# Altium integrated library SHARP BlueStreak.IntLib: 29 symbols (part 6 of 9)
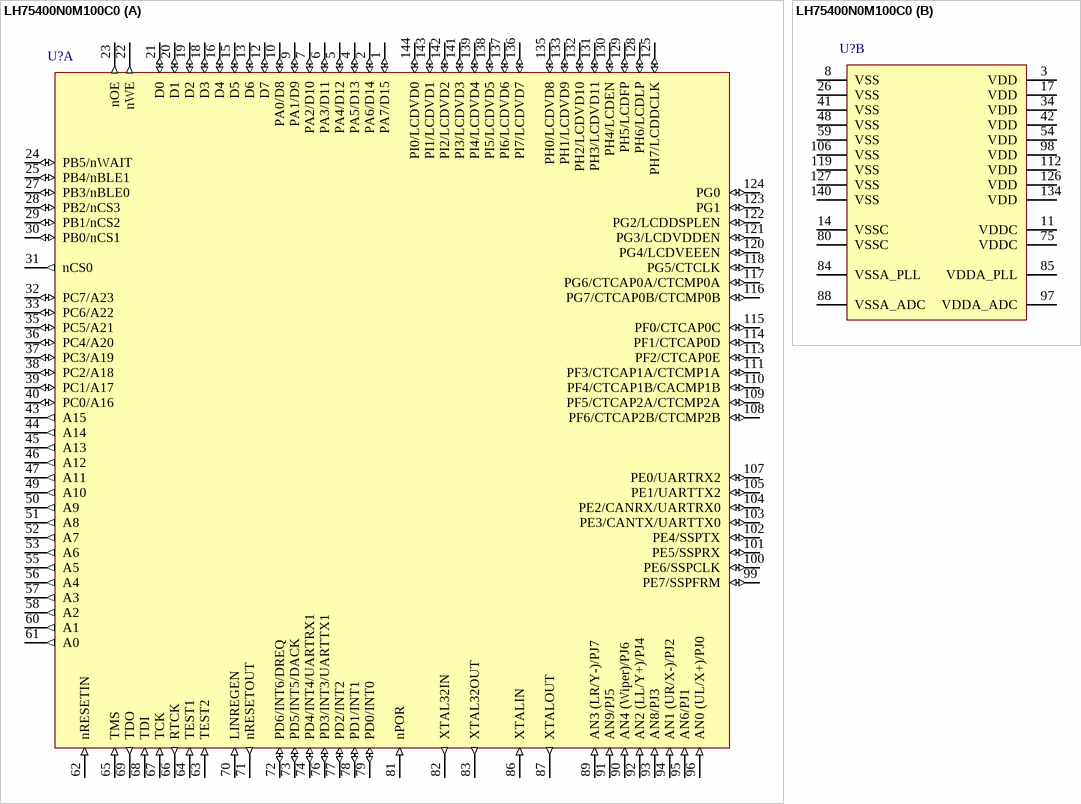
[diagram p38: symbol LH75400N0M100C0]

## LH75400N0M100C0
designator U?
16-Bit ARM7TDMI-S-Based BlueStreak, 8-Bit ADC, CAN 2.0B, UART, Grayscale LCD controller, 32KB SRAM, 144-Pin LQFP; Published: 6-Oct-2005; LatestRevisionDate: 13-Apr-2006; LatestRevisionNote: IPC-7351 Footprint Added.; DatasheetVersion: ver1.2, May-2006; PackageVersion: Mar-2006; PackageReference: 144LQFP; Publisher: Altium Limited; PackageDescription: 144-Pin Low Profile Quad Flat Pack; Code_JEDEC: MS-026; ComponentLink1Description: Manufacturer Link; ComponentLink1URL: http://www.sharpsma.com/; ComponentLink2Description: Datasheet; ComponentLink2URL: http://document.sharpsma.com/files/LH754XX_DS_050806.PDF
footprint 144LQFP_N (Thin QFP, 144-Leads, Body 20x20mm, Pitch 0.5mm, IPC Medium Density)
footprint 144LQFP_L (Thin QFP, 144-Leads, Body 20x20mm, Pitch 0.5mm, IPC High Density)
footprint 144LQFP_M (Thin QFP, 144-Leads, Body 20x20mm, Pitch 0.5mm, IPC Low Density)
3D model LH75400-QFP144 (144-Pin Low Profile Quad Flat Pack)
part A pins: 1 PA7/D15 (io) "GPIO - Port A/Data IO Signal", 2 PA6/D14 (io) "GPIO - Port A/Data IO Signal", 4 PA5/D13 (io) "GPIO - Port A/Data IO Signal", 5 PA4/D12 (io) "GPIO - Port A/Data IO Signal", 6 PA3/D11 (io) "GPIO - Port A/Data IO Signal", 7 PA2/D10 (io) "GPIO - Port A/Data IO Signal", 9 PA1/D9 (io) "GPIO - Port A/Data IO Signal", 10 PA0/D8 (io) "GPIO - Port A/Data IO Signal", 12 D7 (io) "Data IO Signal", 13 D6 (io) "Data IO Signal", 15 D5 (io) "Data IO Signal", 16 D4 (io) "Data IO Signal", 18 D3 (io) "Data IO Signal", 19 D2 (io) "Data IO Signal", 20 D1 (io) "Data IO Signal", 21 D0 (io) "Data IO Signal", 22 nWE (out) "Static Memory Controller Write Enable", 23 nOE (out) "Static Memory Controller Output Enable", 24 PB5/nWAIT (io) "GPIO - Port B/Static Memory Controller External Wait Control", 25 PB4/nBLE1 (io) "GPIO - Port B/Static Memory Controller Byte Lane Strobe", 27 PB3/nBLE0 (io) "GPIO - Port B/Static Memory Controller Byte Lane Strobe", 28 PB2/nCS3 (io) "GPIO - Port B/Static Memory Controller Chip Select", 29 PB1/nCS2 (io) "GPIO - Port B/Static Memory Controller Chip Select", 30 PB0/nCS1 (io) "GPIO - Port B/Static Memory Controller Chip Select", 31 nCS0 (out) "Static Memory Controller Chip Select", 32 PC7/A23 (io) "GPIO - Port C/Address Signal", 33 PC6/A22 (io) "GPIO - Port C/Address Signal", 35 PC5/A21 (io) "GPIO - Port C/Address Signal", 36 PC4/A20 (io) "GPIO - Port C/Address Signal", 37 PC3/A19 (io) "GPIO - Port C/Address Signal", 38 PC2/A18 (io) "GPIO - Port C/Address Signal", 39 PC1/A17 (io) "GPIO - Port C/Address Signal", 40 PC0/A16 (io) "GPIO - Port C/Address Signal", 43 A15 (out) "Address Signal", 44 A14 (out) "Address Signal", 45 A13 (out) "Address Signal", 46 A12 (out) "Address Signal", 47 A11 (out) "Address Signal", 49 A10 (out) "Address Signal", 50 A9 (out) "Address Signal", 51 A8 (out) "Address Signal", 52 A7 (out) "Address Signal", 53 A6 (out) "Address Signal", 55 A5 (out) "Address Signal", 56 A4 (out) "Address Signal", 57 A3 (out) "Address Signal", 58 A2 (out) "Address Signal", 60 A1 (out) "Address Signal", 61 A0 (out) "Address Signal", 62 nRESETIN (in) "User Reset Input", 63 TEST2 (in) "Test Mode Pin 2", 64 TEST1 (in) "Test Mode Pin 1", 65 TMS (in) "JTAG Test Mode Select Input", 66 RTCK (out) "Returned JTAG Test Clock Output", 67 TCK (in) "JTAG Test Clock Input", 68 TDI (in) "JTAG Test Serial Data Input", 69 TDO (out) "JTAG Test Data Serial Output", 70 LINREGEN (in) "Linear Regulator Enable", 71 nRESETOUT (out) "System Reset Output", 72 PD6/INT6/DREQ (io) "GPIO - Port D/External Interrupt Input 6/DMA Request", 73 PD5/INT5/DACK (io) "GPIO - Port D/External Interrupt Input 5/DMA Acknowledge", 74 PD4/INT4/UARTRX1 (io) "GPIO - Port D/External Interrupt Input 4/UART1 RX Serial", 76 PD3/INT3/UARTTX1 (io) "GPIO - Port D/External Interrupt Input 3/UART1 TX Serial Data Output", 77 PD2/INT2 (io) "GPIO - Port D/External Interrupt Input 2", 78 PD1/INT1 (io) "GPIO - Port D/External Interrupt Input 1", 79 PD0/INT0 (io) "GPIO - Port D/External Interrupt Input 0", 81 nPOR (in) "Power-on Reset Input", 82 XTAL32IN (out) "32.768 kHz Crystal Clock Input", 83 XTAL32OUT (out) "32.768 kHz Crystal Clock Output", 86 XTALIN (in) "Crystal Clock Input", 87 XTALOUT (out) "Crystal Clock Output", 89 AN3 (LR/Y-)/PJ7 (in) "ADC Input/GPIO - Port J", 90 AN4 (Wiper)/PJ6 (in) "ADC Input/GPIO - Port J", 91 AN9/PJ5 (in) "ADC Input/GPIO - Port J", 92 AN2 (LL/Y+)/PJ4 (in) "ADC Input/GPIO - Port J", 93 AN8/PJ3 (in) "ADC Input/GPIO - Port J", 94 AN1 (UR/X-)/PJ2 (in) "ADC Input/GPIO - Port J", 95 AN6/PJ1 (in) "ADC Input/GPIO - Port J", 96 AN0 (UL/X+)/PJ0 (in) "ADC Input/GPIO - Port J", 99 PE7/SSPFRM (io) "GPIO - Port E/SSP Serial Frame", 100 PE6/SSPCLK (io) "GPIO - Port E/SSP Clock", 101 PE5/SSPRX (io) "GPIO - Port E/SSP RXD", 102 PE4/SSPTX (io) "GPIO - Port E/SSP TXD", 103 PE3/CANTX/UARTTX0 (io) "GPIO - Port E/CAN TX Serial Data Output/UART0 TX Serial Data Output", 104 PE2/CANRX/UARTRX0 (io) "GPIO - Port E/CAN RX Serial/UART0 RX Serial", 105 PE1/UARTTX2 (io) "GPIO - Port E/UART2 TX Serial Data Output", 107 PE0/UARTRX2 (io) "GPIO - Port E/UART2 RX Serial", 108 PF6/CTCAP2B/CTCMP2B (io) "GPIO - Port F/Timer 2 Capture Input/Timer 2 Compare Output", 109 PF5/CTCAP2A/CTCMP2A (io) "GPIO - Port F/Timer 2 Capture Input/Timer 2 Compare Output", 110 PF4/CTCAP1B/CACMP1B (io) "GPIO - Port F/Timer 1 Capture Input/Timer 1 Compare Output", 111 PF3/CTCAP1A/CTCMP1A (io) "GPIO - Port F/Timer 1 Capture Input/Timer 1 Compare Output", 113 PF2/CTCAP0E (io) "GPIO - Port F/Timer 0 Capture Input", 114 PF1/CTCAP0D (io) "GPIO - Port F/Timer 0 Capture Input", 115 PF0/CTCAP0C (io) "GPIO - Port F/Timer 0 Capture Input", 116 PG7/CTCAP0B/CTCMP0B (io) "GPIO - Port G/Timer 0 Capture Input/Timer 0 Compare Output", 117 PG6/CTCAP0A/CTCMP0A (io) "GPIO - Port G/Timer 0 Capture Input/Timer 0 Compare Output", 118 PG5/CTCLK (io) "GPIO - Port G/Common External", 120 PG4/LCDVEEEN (io) "GPIO - Port G/Analog Supply Enable (AC Bias SIgnal)", 121 PG3/LCDVDDEN (io) "GPIO - Port G/Digital Supply Enable", 122 PG2/LCDDSPLEN (io) "GPIO - Port G/LCD Panel Power Enable", 123 PG1 (io) "GPIO - Port G", 124 PG0 (io) "GPIO - Port G", 125 PH7/LCDDCLK (io) "GPIO - Port H/LCD Panel Clock", 128 PH6/LCDLP (io) "GPIO - Port H/Line Synch Pulse (STN), Horizontal Synch Pulse (TFT)", 129 PH5/LCDFP (io) "GPIO - Port H/Frame Pulse (STN), Vertical", 130 PH4/LCDEN (io) "GPIO - Port H/LCD Data Enable", 131 PH3/LCDVD11 (io) "GPIO - Port H/LCD Panel Data bus", 132 PH2/LCDVD10 (io) "GPIO - Port H/LCD Panel Data bus", 133 PH1/LCDVD9 (io) "GPIO - Port H/LCD Panel Data bus", 135 PH0/LCDVD8 (io) "GPIO - Port H/LCD Panel Data bus", 136 PI7/LCDVD7 (io) "GPIO - Port I/LCD Panel Data bus", 137 PI6/LCDVD6 (io) "GPIO - Port I/LCD Panel Data bus", 138 PI5/LCDVD5 (io) "GPIO - Port I/LCD Panel Data bus", 139 PI4/LCDVD4 (io) "GPIO - Port I/LCD Panel Data bus", 141 PI3/LCDVD3 (io) "GPIO - Port I/LCD Panel Data bus", 142 PI2/LCDVD2 (io) "GPIO - Port I/LCD Panel Data bus", 143 PI1/LCDVD1 (io) "GPIO - Port I/LCD Panel Data bus", 144 PI0/LCDVD0 (io) "GPIO - Port I/LCD Panel Data bus"
part B pins: 3 VDD (power) "I/O Ring VDD", 8 VSS (power) "I/O Ring VSS", 11 VDDC (power) "Core VDD supply", 14 VSSC (power) "Core VSS", 17 VDD (power) "I/O Ring VDD", 26 VSS (power) "I/O Ring VSS", 34 VDD (power) "I/O Ring VDD", 41 VSS (power) "I/O Ring VSS", 42 VDD (power) "I/O Ring VDD", 48 VSS (power) "I/O Ring VSS", 54 VDD (power) "I/O Ring VDD", 59 VSS (power) "I/O Ring VSS", 75 VDDC (power) "Core VDD supply", 80 VSSC (power) "Core VSS", 84 VSSA_PLL (power) "PLL Analog VSS", 85 VDDA_PLL (power) "PLL Analog VDD Supply", 88 VSSA_ADC (power) "ADC Analog VSS", 97 VDDA_ADC (power) "ADC Analog VDD Supply", 98 VDD (power) "I/O Ring VDD", 106 VSS (power) "I/O Ring VSS", 112 VDD (power) "I/O Ring VDD", 119 VSS (power) "I/O Ring VSS", 126 VDD (power) "I/O Ring VDD", 127 VSS (power) "I/O Ring VSS", 134 VDD (power) "I/O Ring VDD", 140 VSS (power) "I/O Ring VSS"

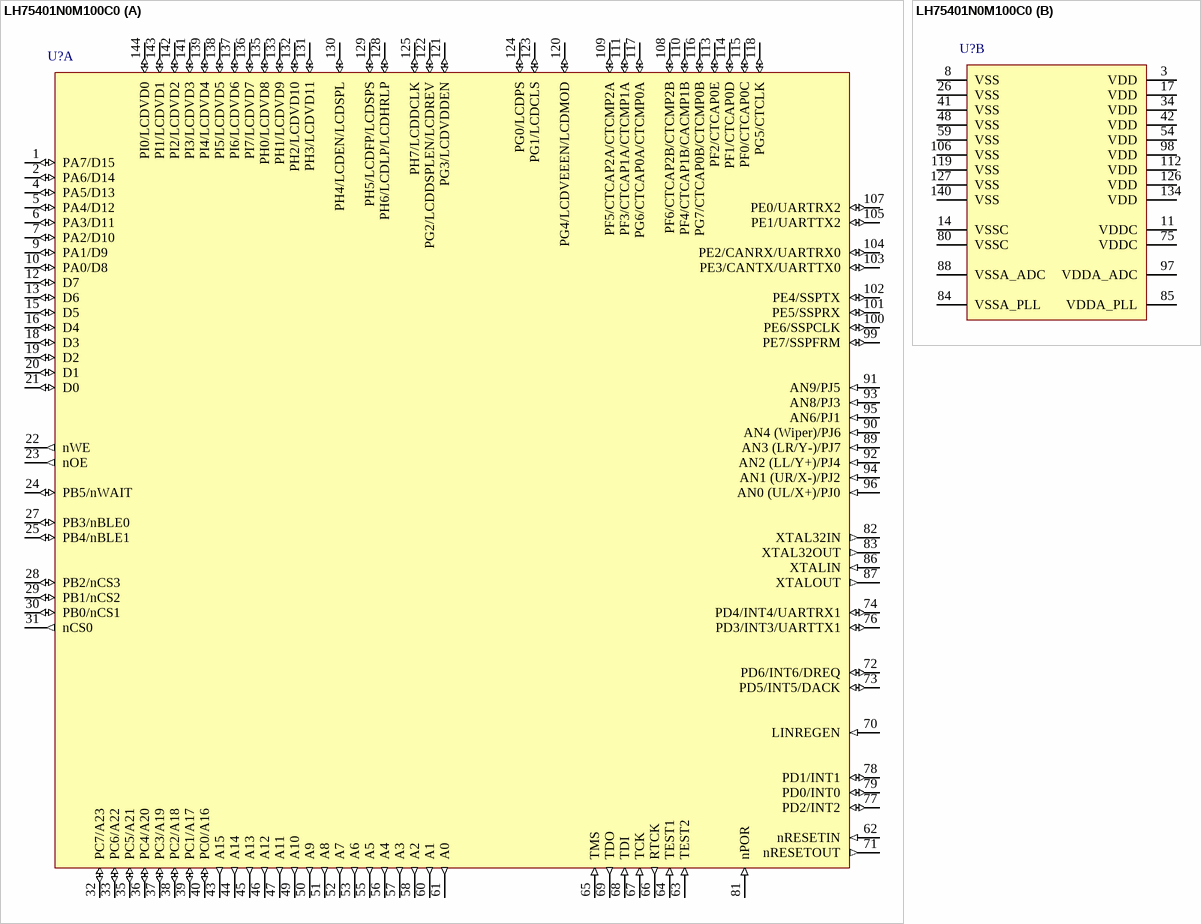
[diagram p21: symbol LH75401N0M100C0]

## LH75401N0M100C0
designator U?
16-Bit ARM7TDMI-S-Based BlueStreak, 8-Bit ADC, CAN 2.0B, UART, Colour LCD controller, 32KB SRAM, 144-Pin LQFP; Published: 6-Oct-2005; LatestRevisionDate: 13-Apr-2006; LatestRevisionNote: IPC-7351 Footprint Added.; DatasheetVersion: ver1.2, May-2006; PackageVersion: Mar-2006; PackageReference: 144LQFP; Publisher: Altium Limited; PackageDescription: 144-Pin Low Profile Quad Flat Pack; Code_JEDEC: MS-026; ComponentLink1Description: Manufacturer Link; ComponentLink1URL: http://www.sharpsma.com/; ComponentLink2Description: Datasheet; ComponentLink2URL: http://document.sharpsma.com/files/LH754XX_DS_050806.PDF
footprint 144LQFP_N (Thin QFP, 144-Leads, Body 20x20mm, Pitch 0.5mm, IPC Medium Density)
footprint 144LQFP_L (Thin QFP, 144-Leads, Body 20x20mm, Pitch 0.5mm, IPC High Density)
footprint 144LQFP_M (Thin QFP, 144-Leads, Body 20x20mm, Pitch 0.5mm, IPC Low Density)
3D model LH75401-QFP144 (144-Pin Low Profile Quad Flat Pack)
part A pins: 1 PA7/D15 (io) "GPIO - Port A/Data IO Signal", 2 PA6/D14 (io) "GPIO - Port A/Data IO Signal", 4 PA5/D13 (io) "GPIO - Port A/Data IO Signal", 5 PA4/D12 (io) "GPIO - Port A/Data IO Signal", 6 PA3/D11 (io) "GPIO - Port A/Data IO Signal", 7 PA2/D10 (io) "GPIO - Port A/Data IO Signal", 9 PA1/D9 (io) "GPIO - Port A/Data IO Signal", 10 PA0/D8 (io) "GPIO - Port A/Data IO Signal", 12 D7 (io) "Data IO Signal", 13 D6 (io) "Data IO Signal", 15 D5 (io) "Data IO Signal", 16 D4 (io) "Data IO Signal", 18 D3 (io) "Data IO Signal", 19 D2 (io) "Data IO Signal", 20 D1 (io) "Data IO Signal", 21 D0 (io) "Data IO Signal", 22 nWE (out) "Static Memory Controller Write Enable", 23 nOE (out) "Static Memory Controller Output Enable", 24 PB5/nWAIT (io) "GPIO - Port B/Static Memory Controller External Wait Control", 25 PB4/nBLE1 (io) "GPIO - Port B/Static Memory Controller Byte Lane Strobe", 27 PB3/nBLE0 (io) "GPIO - Port B/Static Memory Controller Byte Lane Strobe", 28 PB2/nCS3 (io) "GPIO - Port B/Static Memory Controller Chip Select", 29 PB1/nCS2 (io) "GPIO - Port B/Static Memory Controller Chip Select", 30 PB0/nCS1 (io) "GPIO - Port B/Static Memory Controller Chip Select", 31 nCS0 (out) "Static Memory Controller Chip Select", 32 PC7/A23 (io) "GPIO - Port C/Address Signal", 33 PC6/A22 (io) "GPIO - Port C/Address Signal", 35 PC5/A21 (io) "GPIO - Port C/Address Signal", 36 PC4/A20 (io) "GPIO - Port C/Address Signal", 37 PC3/A19 (io) "GPIO - Port C/Address Signal", 38 PC2/A18 (io) "GPIO - Port C/Address Signal", 39 PC1/A17 (io) "GPIO - Port C/Address Signal", 40 PC0/A16 (io) "GPIO - Port C/Address Signal", 43 A15 (out) "Address Signal", 44 A14 (out) "Address Signal", 45 A13 (out) "Address Signal", 46 A12 (out) "Address Signal", 47 A11 (out) "Address Signal", 49 A10 (out) "Address Signal", 50 A9 (out) "Address Signal", 51 A8 (out) "Address Signal", 52 A7 (out) "Address Signal", 53 A6 (out) "Address Signal", 55 A5 (out) "Address Signal", 56 A4 (out) "Address Signal", 57 A3 (out) "Address Signal", 58 A2 (out) "Address Signal", 60 A1 (out) "Address Signal", 61 A0 (out) "Address Signal", 62 nRESETIN (in) "User Reset Input", 63 TEST2 (in) "Test Mode Pin 2", 64 TEST1 (in) "Test Mode Pin 1", 65 TMS (in) "JTAG Test Mode Select Input", 66 RTCK (out) "Returned JTAG Test Clock Output", 67 TCK (in) "JTAG Test Clock Input", 68 TDI (in) "JTAG Test Serial Data Input", 69 TDO (out) "JTAG Test Data Serial Output", 70 LINREGEN (in) "Linear Regulator Enable", 71 nRESETOUT (out) "System Reset Output", 72 PD6/INT6/DREQ (io) "GPIO - Port D/External Interrupt Input 6/DMA Request", 73 PD5/INT5/DACK (io) "GPIO - Port D/External Interrupt Input 5/DMA Acknowledge", 74 PD4/INT4/UARTRX1 (io) "GPIO - Port D/External Interrupt Input 4/UART1 RX Serial", 76 PD3/INT3/UARTTX1 (io) "GPIO - Port D/External Interrupt Input 3/UART1 TX Serial Data Output", 77 PD2/INT2 (io) "GPIO - Port D/External Interrupt Input 2", 78 PD1/INT1 (io) "GPIO - Port D/External Interrupt Input 1", 79 PD0/INT0 (io) "GPIO - Port D/External Interrupt Input 0", 81 nPOR (in) "Power-on Reset Input", 82 XTAL32IN (out) "32.768 kHz Crystal Clock Input", 83 XTAL32OUT (out) "32.768 kHz Crystal Clock Output", 86 XTALIN (in) "Crystal Clock Input", 87 XTALOUT (out) "Crystal Clock Output", 89 AN3 (LR/Y-)/PJ7 (in) "ADC Input/GPIO - Port J", 90 AN4 (Wiper)/PJ6 (in) "ADC Input/GPIO - Port J", 91 AN9/PJ5 (in) "ADC Input/GPIO - Port J", 92 AN2 (LL/Y+)/PJ4 (in) "ADC Input/GPIO - Port J", 93 AN8/PJ3 (in) "ADC Input/GPIO - Port J", 94 AN1 (UR/X-)/PJ2 (in) "ADC Input/GPIO - Port J", 95 AN6/PJ1 (in) "ADC Input/GPIO - Port J", 96 AN0 (UL/X+)/PJ0 (in) "ADC Input/GPIO - Port J", 99 PE7/SSPFRM (io) "GPIO - Port E/SSP Serial Frame", 100 PE6/SSPCLK (io) "GPIO - Port E/SSP Clock", 101 PE5/SSPRX (io) "GPIO - Port E/SSP RXD", 102 PE4/SSPTX (io) "GPIO - Port E/SSP TXD", 103 PE3/CANTX/UARTTX0 (io) "GPIO - Port E/CAN TX Serial Data Output/UART0 TX Serial Data Output", 104 PE2/CANRX/UARTRX0 (io) "GPIO - Port E/CAN RX Serial/UART0 RX Serial", 105 PE1/UARTTX2 (io) "GPIO - Port E/UART2 TX Serial Data Output", 107 PE0/UARTRX2 (io) "GPIO - Port E/UART2 RX Serial", 108 PF6/CTCAP2B/CTCMP2B (io) "GPIO - Port F/Timer 2 Capture Input/Timer 2 Compare Output", 109 PF5/CTCAP2A/CTCMP2A (io) "GPIO - Port F/Timer 2 Capture Input/Timer 2 Compare Output", 110 PF4/CTCAP1B/CACMP1B (io) "GPIO - Port F/Timer 1 Capture Input/Timer 1 Compare Output", 111 PF3/CTCAP1A/CTCMP1A (io) "GPIO - Port F/Timer 1 Capture Input/Timer 1 Compare Output", 113 PF2/CTCAP0E (io) "GPIO - Port F/Timer 0 Capture Input", 114 PF1/CTCAP0D (io) "GPIO - Port F/Timer 0 Capture Input", 115 PF0/CTCAP0C (io) "GPIO - Port F/Timer 0 Capture Input", 116 PG7/CTCAP0B/CTCMP0B (io) "GPIO - Port G/Timer 0 Capture Input/Timer 0 Compare Output", 117 PG6/CTCAP0A/CTCMP0A (io) "GPIO - Port G/Timer 0 Capture Input/Timer 0 Compare Output", 118 PG5/CTCLK (io) "GPIO - Port G/Common External", 120 PG4/LCDVEEEN/LCDMOD (io) "GPIO - Port G/Analog Supply Enable (AC Bias SIgnal)/Row Driver Signal", 121 PG3/LCDVDDEN (io) "GPIO - Port G/Digital Supply Enable", 122 PG2/LCDDSPLEN/LCDREV (io) "GPIO - Port G/LCD Panel Power Enable/Reverse Signal", 123 PG1/LCDCLS (io) "GPIO - Port G/Clock to the Row Drivers", 124 PG0/LCDPS (io) "GPIO - Port G/Power Save", 125 PH7/LCDDCLK (io) "GPIO - Port H/LCD Panel Clock", 128 PH6/LCDLP/LCDHRLP (io) "GPIO - Port H/Line and Horizontal Synch Pulse/Latch Pulse", 129 PH5/LCDFP/LCDSPS (io) "GPIO - Port H/Frame Pulse (STN), Vertical/Row Driver Counter Reset Signal", 130 PH4/LCDEN/LCDSPL (io) "GPIO - Port H/LCD Data Enable/Start Pulse Left", 131 PH3/LCDVD11 (io) "GPIO - Port H/LCD Panel Data bus", 132 PH2/LCDVD10 (io) "GPIO - Port H/LCD Panel Data bus", 133 PH1/LCDVD9 (io) "GPIO - Port H/LCD Panel Data bus", 135 PH0/LCDVD8 (io) "GPIO - Port H/LCD Panel Data bus", 136 PI7/LCDVD7 (io) "GPIO - Port I/LCD Panel Data bus", 137 PI6/LCDVD6 (io) "GPIO - Port I/LCD Panel Data bus", 138 PI5/LCDVD5 (io) "GPIO - Port I/LCD Panel Data bus", 139 PI4/LCDVD4 (io) "GPIO - Port I/LCD Panel Data bus", 141 PI3/LCDVD3 (io) "GPIO - Port I/LCD Panel Data bus", 142 PI2/LCDVD2 (io) "GPIO - Port I/LCD Panel Data bus", 143 PI1/LCDVD1 (io) "GPIO - Port I/LCD Panel Data bus", 144 PI0/LCDVD0 (io) "GPIO - Port I/LCD Panel Data bus"
part B pins: 3 VDD (power) "I/O Ring VDD", 8 VSS (power) "I/O Ring VSS", 11 VDDC (power) "Core VDD supply", 14 VSSC (power) "Core VSS", 17 VDD (power) "I/O Ring VDD", 26 VSS (power) "I/O Ring VSS", 34 VDD (power) "I/O Ring VDD", 41 VSS (power) "I/O Ring VSS", 42 VDD (power) "I/O Ring VDD", 48 VSS (power) "I/O Ring VSS", 54 VDD (power) "I/O Ring VDD", 59 VSS (power) "I/O Ring VSS", 75 VDDC (power) "Core VDD supply", 80 VSSC (power) "Core VSS", 84 VSSA_PLL (power) "PLL Analog VSS", 85 VDDA_PLL (power) "PLL Analog VDD Supply", 88 VSSA_ADC (power) "ADC Analog VSS", 97 VDDA_ADC (power) "ADC Analog VDD Supply", 98 VDD (power) "I/O Ring VDD", 106 VSS (power) "I/O Ring VSS", 112 VDD (power) "I/O Ring VDD", 119 VSS (power) "I/O Ring VSS", 126 VDD (power) "I/O Ring VDD", 127 VSS (power) "I/O Ring VSS", 134 VDD (power) "I/O Ring VDD", 140 VSS (power) "I/O Ring VSS"

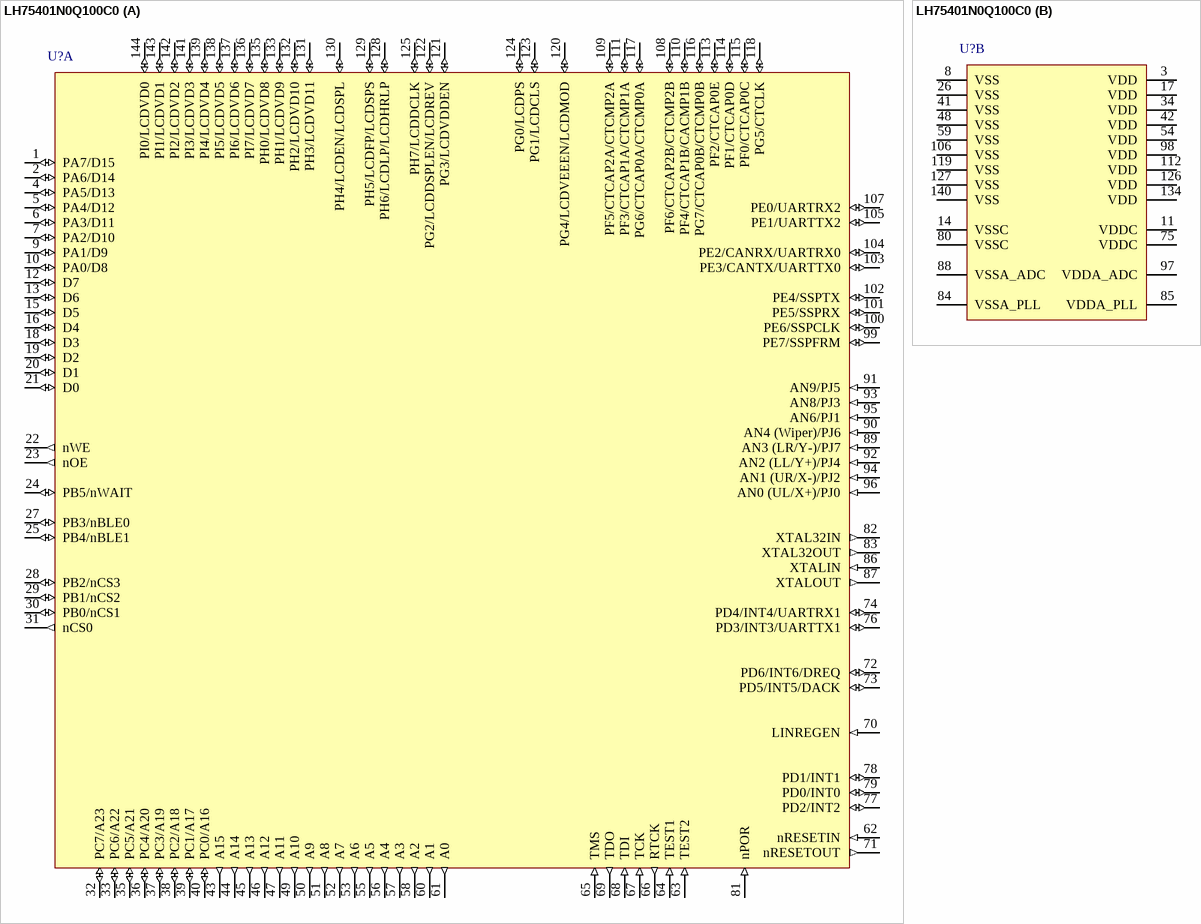
[diagram p22: symbol LH75401N0Q100C0]

## LH75401N0Q100C0
designator U?
16-Bit ARM7TDMI-S-Based BlueStreak, 8-Bit ADC, CAN 2.0B, UART, Colour LCD controller, 32KB SRAM, 144-Pin LQFP, Pb-Free; Published: 6-Oct-2005; LatestRevisionDate: 13-Apr-2006; LatestRevisionNote: IPC-7351 Footprint Added.; DatasheetVersion: ver1.2, May-2006; PackageVersion: Mar-2006; PackageReference: 144LQFP; Publisher: Altium Limited; PackageDescription: 144-Pin Low Profile Quad Flat Pack; Code_JEDEC: MS-026; ComponentLink1Description: Manufacturer Link; ComponentLink1URL: http://www.sharpsma.com/; ComponentLink2Description: Datasheet; ComponentLink2URL: http://document.sharpsma.com/files/LH754XX_DS_050806.PDF
footprint 144LQFP_N (Thin QFP, 144-Leads, Body 20x20mm, Pitch 0.5mm, IPC Medium Density)
footprint 144LQFP_L (Thin QFP, 144-Leads, Body 20x20mm, Pitch 0.5mm, IPC High Density)
footprint 144LQFP_M (Thin QFP, 144-Leads, Body 20x20mm, Pitch 0.5mm, IPC Low Density)
3D model LH75401-QFP144 (144-Pin Low Profile Quad Flat Pack)
part A pins: 1 PA7/D15 (io) "GPIO - Port A/Data IO Signal", 2 PA6/D14 (io) "GPIO - Port A/Data IO Signal", 4 PA5/D13 (io) "GPIO - Port A/Data IO Signal", 5 PA4/D12 (io) "GPIO - Port A/Data IO Signal", 6 PA3/D11 (io) "GPIO - Port A/Data IO Signal", 7 PA2/D10 (io) "GPIO - Port A/Data IO Signal", 9 PA1/D9 (io) "GPIO - Port A/Data IO Signal", 10 PA0/D8 (io) "GPIO - Port A/Data IO Signal", 12 D7 (io) "Data IO Signal", 13 D6 (io) "Data IO Signal", 15 D5 (io) "Data IO Signal", 16 D4 (io) "Data IO Signal", 18 D3 (io) "Data IO Signal", 19 D2 (io) "Data IO Signal", 20 D1 (io) "Data IO Signal", 21 D0 (io) "Data IO Signal", 22 nWE (out) "Static Memory Controller Write Enable", 23 nOE (out) "Static Memory Controller Output Enable", 24 PB5/nWAIT (io) "GPIO - Port B/Static Memory Controller External Wait Control", 25 PB4/nBLE1 (io) "GPIO - Port B/Static Memory Controller Byte Lane Strobe", 27 PB3/nBLE0 (io) "GPIO - Port B/Static Memory Controller Byte Lane Strobe", 28 PB2/nCS3 (io) "GPIO - Port B/Static Memory Controller Chip Select", 29 PB1/nCS2 (io) "GPIO - Port B/Static Memory Controller Chip Select", 30 PB0/nCS1 (io) "GPIO - Port B/Static Memory Controller Chip Select", 31 nCS0 (out) "Static Memory Controller Chip Select", 32 PC7/A23 (io) "GPIO - Port C/Address Signal", 33 PC6/A22 (io) "GPIO - Port C/Address Signal", 35 PC5/A21 (io) "GPIO - Port C/Address Signal", 36 PC4/A20 (io) "GPIO - Port C/Address Signal", 37 PC3/A19 (io) "GPIO - Port C/Address Signal", 38 PC2/A18 (io) "GPIO - Port C/Address Signal", 39 PC1/A17 (io) "GPIO - Port C/Address Signal", 40 PC0/A16 (io) "GPIO - Port C/Address Signal", 43 A15 (out) "Address Signal", 44 A14 (out) "Address Signal", 45 A13 (out) "Address Signal", 46 A12 (out) "Address Signal", 47 A11 (out) "Address Signal", 49 A10 (out) "Address Signal", 50 A9 (out) "Address Signal", 51 A8 (out) "Address Signal", 52 A7 (out) "Address Signal", 53 A6 (out) "Address Signal", 55 A5 (out) "Address Signal", 56 A4 (out) "Address Signal", 57 A3 (out) "Address Signal", 58 A2 (out) "Address Signal", 60 A1 (out) "Address Signal", 61 A0 (out) "Address Signal", 62 nRESETIN (in) "User Reset Input", 63 TEST2 (in) "Test Mode Pin 2", 64 TEST1 (in) "Test Mode Pin 1", 65 TMS (in) "JTAG Test Mode Select Input", 66 RTCK (out) "Returned JTAG Test Clock Output", 67 TCK (in) "JTAG Test Clock Input", 68 TDI (in) "JTAG Test Serial Data Input", 69 TDO (out) "JTAG Test Data Serial Output", 70 LINREGEN (in) "Linear Regulator Enable", 71 nRESETOUT (out) "System Reset Output", 72 PD6/INT6/DREQ (io) "GPIO - Port D/External Interrupt Input 6/DMA Request", 73 PD5/INT5/DACK (io) "GPIO - Port D/External Interrupt Input 5/DMA Acknowledge", 74 PD4/INT4/UARTRX1 (io) "GPIO - Port D/External Interrupt Input 4/UART1 RX Serial", 76 PD3/INT3/UARTTX1 (io) "GPIO - Port D/External Interrupt Input 3/UART1 TX Serial Data Output", 77 PD2/INT2 (io) "GPIO - Port D/External Interrupt Input 2", 78 PD1/INT1 (io) "GPIO - Port D/External Interrupt Input 1", 79 PD0/INT0 (io) "GPIO - Port D/External Interrupt Input 0", 81 nPOR (in) "Power-on Reset Input", 82 XTAL32IN (out) "32.768 kHz Crystal Clock Input", 83 XTAL32OUT (out) "32.768 kHz Crystal Clock Output", 86 XTALIN (in) "Crystal Clock Input", 87 XTALOUT (out) "Crystal Clock Output", 89 AN3 (LR/Y-)/PJ7 (in) "ADC Input/GPIO - Port J", 90 AN4 (Wiper)/PJ6 (in) "ADC Input/GPIO - Port J", 91 AN9/PJ5 (in) "ADC Input/GPIO - Port J", 92 AN2 (LL/Y+)/PJ4 (in) "ADC Input/GPIO - Port J", 93 AN8/PJ3 (in) "ADC Input/GPIO - Port J", 94 AN1 (UR/X-)/PJ2 (in) "ADC Input/GPIO - Port J", 95 AN6/PJ1 (in) "ADC Input/GPIO - Port J", 96 AN0 (UL/X+)/PJ0 (in) "ADC Input/GPIO - Port J", 99 PE7/SSPFRM (io) "GPIO - Port E/SSP Serial Frame", 100 PE6/SSPCLK (io) "GPIO - Port E/SSP Clock", 101 PE5/SSPRX (io) "GPIO - Port E/SSP RXD", 102 PE4/SSPTX (io) "GPIO - Port E/SSP TXD", 103 PE3/CANTX/UARTTX0 (io) "GPIO - Port E/CAN TX Serial Data Output/UART0 TX Serial Data Output", 104 PE2/CANRX/UARTRX0 (io) "GPIO - Port E/CAN RX Serial/UART0 RX Serial", 105 PE1/UARTTX2 (io) "GPIO - Port E/UART2 TX Serial Data Output", 107 PE0/UARTRX2 (io) "GPIO - Port E/UART2 RX Serial", 108 PF6/CTCAP2B/CTCMP2B (io) "GPIO - Port F/Timer 2 Capture Input/Timer 2 Compare Output", 109 PF5/CTCAP2A/CTCMP2A (io) "GPIO - Port F/Timer 2 Capture Input/Timer 2 Compare Output", 110 PF4/CTCAP1B/CACMP1B (io) "GPIO - Port F/Timer 1 Capture Input/Timer 1 Compare Output", 111 PF3/CTCAP1A/CTCMP1A (io) "GPIO - Port F/Timer 1 Capture Input/Timer 1 Compare Output", 113 PF2/CTCAP0E (io) "GPIO - Port F/Timer 0 Capture Input", 114 PF1/CTCAP0D (io) "GPIO - Port F/Timer 0 Capture Input", 115 PF0/CTCAP0C (io) "GPIO - Port F/Timer 0 Capture Input", 116 PG7/CTCAP0B/CTCMP0B (io) "GPIO - Port G/Timer 0 Capture Input/Timer 0 Compare Output", 117 PG6/CTCAP0A/CTCMP0A (io) "GPIO - Port G/Timer 0 Capture Input/Timer 0 Compare Output", 118 PG5/CTCLK (io) "GPIO - Port G/Common External", 120 PG4/LCDVEEEN/LCDMOD (io) "GPIO - Port G/Analog Supply Enable (AC Bias SIgnal)/Row Driver Signal", 121 PG3/LCDVDDEN (io) "GPIO - Port G/Digital Supply Enable", 122 PG2/LCDDSPLEN/LCDREV (io) "GPIO - Port G/LCD Panel Power Enable/Reverse Signal", 123 PG1/LCDCLS (io) "GPIO - Port G/Clock to the Row Drivers", 124 PG0/LCDPS (io) "GPIO - Port G/Power Save", 125 PH7/LCDDCLK (io) "GPIO - Port H/LCD Panel Clock", 128 PH6/LCDLP/LCDHRLP (io) "GPIO - Port H/Line and Horizontal Synch Pulse/Latch Pulse", 129 PH5/LCDFP/LCDSPS (io) "GPIO - Port H/Frame Pulse (STN), Vertical/Row Driver Counter Reset Signal", 130 PH4/LCDEN/LCDSPL (io) "GPIO - Port H/LCD Data Enable/Start Pulse Left", 131 PH3/LCDVD11 (io) "GPIO - Port H/LCD Panel Data bus", 132 PH2/LCDVD10 (io) "GPIO - Port H/LCD Panel Data bus", 133 PH1/LCDVD9 (io) "GPIO - Port H/LCD Panel Data bus", 135 PH0/LCDVD8 (io) "GPIO - Port H/LCD Panel Data bus", 136 PI7/LCDVD7 (io) "GPIO - Port I/LCD Panel Data bus", 137 PI6/LCDVD6 (io) "GPIO - Port I/LCD Panel Data bus", 138 PI5/LCDVD5 (io) "GPIO - Port I/LCD Panel Data bus", 139 PI4/LCDVD4 (io) "GPIO - Port I/LCD Panel Data bus", 141 PI3/LCDVD3 (io) "GPIO - Port I/LCD Panel Data bus", 142 PI2/LCDVD2 (io) "GPIO - Port I/LCD Panel Data bus", 143 PI1/LCDVD1 (io) "GPIO - Port I/LCD Panel Data bus", 144 PI0/LCDVD0 (io) "GPIO - Port I/LCD Panel Data bus"
part B pins: 3 VDD (power) "I/O Ring VDD", 8 VSS (power) "I/O Ring VSS", 11 VDDC (power) "Core VDD supply", 14 VSSC (power) "Core VSS", 17 VDD (power) "I/O Ring VDD", 26 VSS (power) "I/O Ring VSS", 34 VDD (power) "I/O Ring VDD", 41 VSS (power) "I/O Ring VSS", 42 VDD (power) "I/O Ring VDD", 48 VSS (power) "I/O Ring VSS", 54 VDD (power) "I/O Ring VDD", 59 VSS (power) "I/O Ring VSS", 75 VDDC (power) "Core VDD supply", 80 VSSC (power) "Core VSS", 84 VSSA_PLL (power) "PLL Analog VSS", 85 VDDA_PLL (power) "PLL Analog VDD Supply", 88 VSSA_ADC (power) "ADC Analog VSS", 97 VDDA_ADC (power) "ADC Analog VDD Supply", 98 VDD (power) "I/O Ring VDD", 106 VSS (power) "I/O Ring VSS", 112 VDD (power) "I/O Ring VDD", 119 VSS (power) "I/O Ring VSS", 126 VDD (power) "I/O Ring VDD", 127 VSS (power) "I/O Ring VSS", 134 VDD (power) "I/O Ring VDD", 140 VSS (power) "I/O Ring VSS"

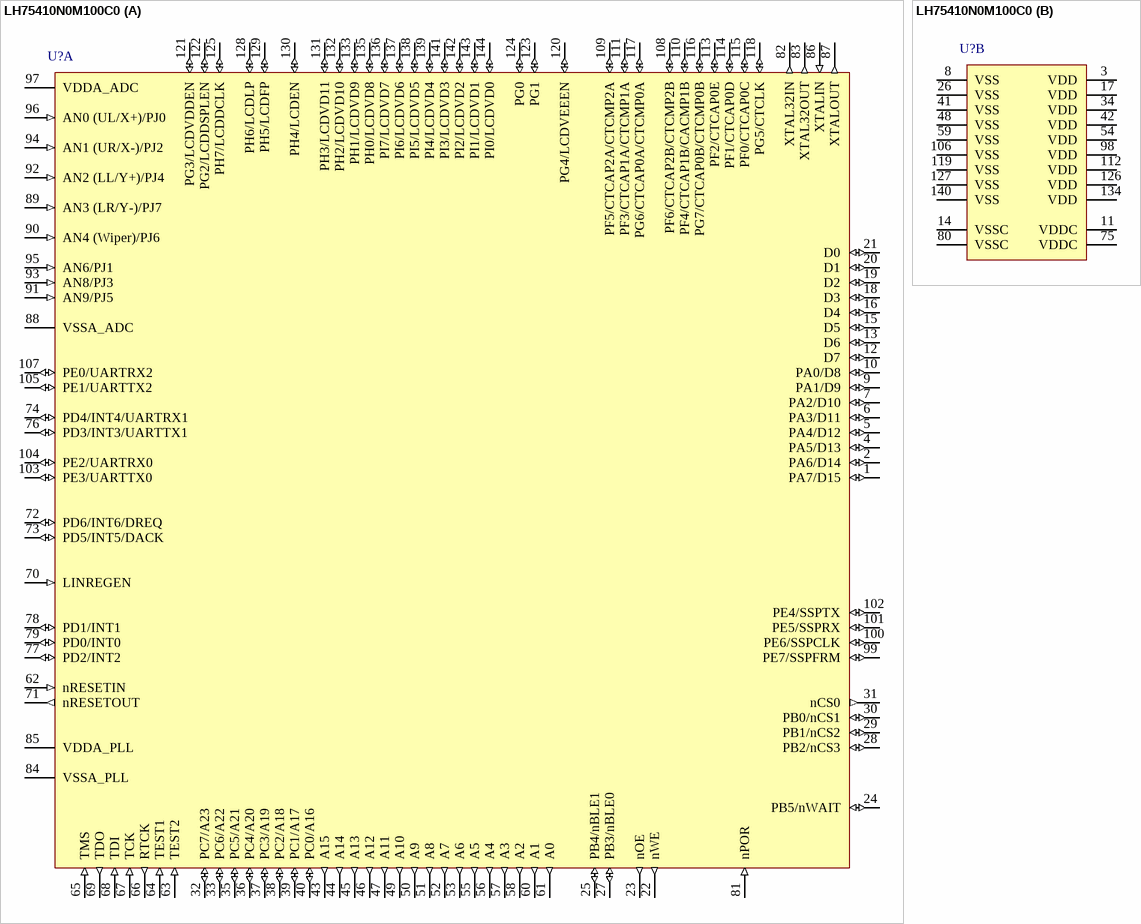
[diagram p23: symbol LH75410N0M100C0]

## LH75410N0M100C0
designator U?
16-Bit ARM7TDMI-S-Based BlueStreak, 8-Bit ADC, UART, Grayscale LCD controller, 32KB SRAM, 144-Pin LQFP; Published: 6-Oct-2005; LatestRevisionDate: 13-Apr-2006; LatestRevisionNote: IPC-7351 Footprint Added.; DatasheetVersion: ver1.2, May-2006; PackageVersion: Mar-2006; PackageReference: 144LQFP; Publisher: Altium Limited; PackageDescription: 144-Pin Low Profile Quad Flat Pack; Code_JEDEC: MS-026; ComponentLink1Description: Manufacturer Link; ComponentLink1URL: http://www.sharpsma.com/; ComponentLink2Description: Datasheet; ComponentLink2URL: http://document.sharpsma.com/files/LH754XX_DS_050806.PDF
footprint 144LQFP_N (Thin QFP, 144-Leads, Body 20x20mm, Pitch 0.5mm, IPC Medium Density)
footprint 144LQFP_L (Thin QFP, 144-Leads, Body 20x20mm, Pitch 0.5mm, IPC High Density)
footprint 144LQFP_M (Thin QFP, 144-Leads, Body 20x20mm, Pitch 0.5mm, IPC Low Density)
3D model LH75410-QFP144 (144-Pin Low Profile Quad Flat Pack)
part A pins: 1 PA7/D15 (io) "GPIO - Port A/Data IO Signal", 2 PA6/D14 (io) "GPIO - Port A/Data IO Signal", 4 PA5/D13 (io) "GPIO - Port A/Data IO Signal", 5 PA4/D12 (io) "GPIO - Port A/Data IO Signal", 6 PA3/D11 (io) "GPIO - Port A/Data IO Signal", 7 PA2/D10 (io) "GPIO - Port A/Data IO Signal", 9 PA1/D9 (io) "GPIO - Port A/Data IO Signal", 10 PA0/D8 (io) "GPIO - Port A/Data IO Signal", 12 D7 (io) "Data IO Signal", 13 D6 (io) "Data IO Signal", 15 D5 (io) "Data IO Signal", 16 D4 (io) "Data IO Signal", 18 D3 (io) "Data IO Signal", 19 D2 (io) "Data IO Signal", 20 D1 (io) "Data IO Signal", 21 D0 (io) "Data IO Signal", 22 nWE (out) "Static Memory Controller Write Enable", 23 nOE (out) "Static Memory Controller Output Enable", 24 PB5/nWAIT (io) "GPIO - Port B/Static Memory Controller External Wait Control", 25 PB4/nBLE1 (io) "GPIO - Port B/Static Memory Controller Byte Lane Strobe", 27 PB3/nBLE0 (io) "GPIO - Port B/Static Memory Controller Byte Lane Strobe", 28 PB2/nCS3 (io) "GPIO - Port B/Static Memory Controller Chip Select", 29 PB1/nCS2 (io) "GPIO - Port B/Static Memory Controller Chip Select", 30 PB0/nCS1 (io) "GPIO - Port B/Static Memory Controller Chip Select", 31 nCS0 (out) "Static Memory Controller Chip Select", 32 PC7/A23 (io) "GPIO - Port C/Address Signal", 33 PC6/A22 (io) "GPIO - Port C/Address Signal", 35 PC5/A21 (io) "GPIO - Port C/Address Signal", 36 PC4/A20 (io) "GPIO - Port C/Address Signal", 37 PC3/A19 (io) "GPIO - Port C/Address Signal", 38 PC2/A18 (io) "GPIO - Port C/Address Signal", 39 PC1/A17 (io) "GPIO - Port C/Address Signal", 40 PC0/A16 (io) "GPIO - Port C/Address Signal", 43 A15 (out) "Address Signal", 44 A14 (out) "Address Signal", 45 A13 (out) "Address Signal", 46 A12 (out) "Address Signal", 47 A11 (out) "Address Signal", 49 A10 (out) "Address Signal", 50 A9 (out) "Address Signal", 51 A8 (out) "Address Signal", 52 A7 (out) "Address Signal", 53 A6 (out) "Address Signal", 55 A5 (out) "Address Signal", 56 A4 (out) "Address Signal", 57 A3 (out) "Address Signal", 58 A2 (out) "Address Signal", 60 A1 (out) "Address Signal", 61 A0 (out) "Address Signal", 62 nRESETIN (in) "User Reset Input", 63 TEST2 (in) "Test Mode Pin 2", 64 TEST1 (in) "Test Mode Pin 1", 65 TMS (in) "JTAG Test Mode Select Input", 66 RTCK (out) "Returned JTAG Test Clock Output", 67 TCK (in) "JTAG Test Clock Input", 68 TDI (in) "JTAG Test Serial Data Input", 69 TDO (out) "JTAG Test Data Serial Output", 70 LINREGEN (in) "Linear Regulator Enable", 71 nRESETOUT (out) "System Reset Output", 72 PD6/INT6/DREQ (io) "GPIO - Port D/External Interrupt Input 6/DMA Request", 73 PD5/INT5/DACK (io) "GPIO - Port D/External Interrupt Input 5/DMA Acknowledge", 74 PD4/INT4/UARTRX1 (io) "GPIO - Port D/External Interrupt Input 4/UART1 RX Serial", 76 PD3/INT3/UARTTX1 (io) "GPIO - Port D/External Interrupt Input 3/UART1 TX Serial Data Output", 77 PD2/INT2 (io) "GPIO - Port D/External Interrupt Input 2", 78 PD1/INT1 (io) "GPIO - Port D/External Interrupt Input 1", 79 PD0/INT0 (io) "GPIO - Port D/External Interrupt Input 0", 81 nPOR (in) "Power-on Reset Input", 82 XTAL32IN (out) "32.768 kHz Crystal Clock Input", 83 XTAL32OUT (out) "32.768 kHz Crystal Clock Output", 84 VSSA_PLL (power) "PLL Analog VSS", 85 VDDA_PLL (power) "PLL Analog VDD Supply", 86 XTALIN (in) "Crystal Clock Input", 87 XTALOUT (out) "Crystal Clock Output", 88 VSSA_ADC (power) "ADC Analog VSS", 89 AN3 (LR/Y-)/PJ7 (in) "ADC Input/GPIO - Port J", 90 AN4 (Wiper)/PJ6 (in) "ADC Input/GPIO - Port J", 91 AN9/PJ5 (in) "ADC Input/GPIO - Port J", 92 AN2 (LL/Y+)/PJ4 (in) "ADC Input/GPIO - Port J", 93 AN8/PJ3 (in) "ADC Input/GPIO - Port J", 94 AN1 (UR/X-)/PJ2 (in) "ADC Input/GPIO - Port J", 95 AN6/PJ1 (in) "ADC Input/GPIO - Port J", 96 AN0 (UL/X+)/PJ0 (in) "ADC Input/GPIO - Port J", 97 VDDA_ADC (power) "ADC Analog VDD Supply", 99 PE7/SSPFRM (io) "GPIO - Port E/SSP Serial Frame", 100 PE6/SSPCLK (io) "GPIO - Port E/SSP Clock", 101 PE5/SSPRX (io) "GPIO - Port E/SSP RXD", 102 PE4/SSPTX (io) "GPIO - Port E/SSP TXD", 103 PE3/UARTTX0 (io) "GPIO - Port E/UART0 TX Serial Data Output", 104 PE2/UARTRX0 (io) "GPIO - Port E/UART0 RX Serial", 105 PE1/UARTTX2 (io) "GPIO - Port E/UART2 TX Serial Data Output", 107 PE0/UARTRX2 (io) "GPIO - Port E/UART2 RX Serial", 108 PF6/CTCAP2B/CTCMP2B (io) "GPIO - Port F/Timer 2 Capture Input/Timer 2 Compare Output", 109 PF5/CTCAP2A/CTCMP2A (io) "GPIO - Port F/Timer 2 Capture Input/Timer 2 Compare Output", 110 PF4/CTCAP1B/CACMP1B (io) "GPIO - Port F/Timer 1 Capture Input/Timer 1 Compare Output", 111 PF3/CTCAP1A/CTCMP1A (io) "GPIO - Port F/Timer 1 Capture Input/Timer 1 Compare Output", 113 PF2/CTCAP0E (io) "GPIO - Port F/Timer 0 Capture Input", 114 PF1/CTCAP0D (io) "GPIO - Port F/Timer 0 Capture Input", 115 PF0/CTCAP0C (io) "GPIO - Port F/Timer 0 Capture Input", 116 PG7/CTCAP0B/CTCMP0B (io) "GPIO - Port G/Timer 0 Capture Input/Timer 0 Compare Output", 117 PG6/CTCAP0A/CTCMP0A (io) "GPIO - Port G/Timer 0 Capture Input/Timer 0 Compare Output", 118 PG5/CTCLK (io) "GPIO - Port G/Common External", 120 PG4/LCDVEEEN (io) "GPIO - Port G/Analog Supply Enable (AC Bias SIgnal)", 121 PG3/LCDVDDEN (io) "GPIO - Port G/Digital Supply Enable", 122 PG2/LCDDSPLEN (io) "GPIO - Port G/LCD Panel Power Enable", 123 PG1 (io) "GPIO - Port G", 124 PG0 (io) "GPIO - Port G", 125 PH7/LCDDCLK (io) "GPIO - Port H/LCD Panel Clock", 128 PH6/LCDLP (io) "GPIO - Port H/Line and Horizontal Synch Pulse", 129 PH5/LCDFP (io) "GPIO - Port H/Frame Pulse (STN), Vertical", 130 PH4/LCDEN (io) "GPIO - Port H/LCD Data Enable", 131 PH3/LCDVD11 (io) "GPIO - Port H/LCD Panel Data bus", 132 PH2/LCDVD10 (io) "GPIO - Port H/LCD Panel Data bus", 133 PH1/LCDVD9 (io) "GPIO - Port H/LCD Panel Data bus", 135 PH0/LCDVD8 (io) "GPIO - Port H/LCD Panel Data bus", 136 PI7/LCDVD7 (io) "GPIO - Port I/LCD Panel Data bus", 137 PI6/LCDVD6 (io) "GPIO - Port I/LCD Panel Data bus", 138 PI5/LCDVD5 (io) "GPIO - Port I/LCD Panel Data bus", 139 PI4/LCDVD4 (io) "GPIO - Port I/LCD Panel Data bus", 141 PI3/LCDVD3 (io) "GPIO - Port I/LCD Panel Data bus", 142 PI2/LCDVD2 (io) "GPIO - Port I/LCD Panel Data bus", 143 PI1/LCDVD1 (io) "GPIO - Port I/LCD Panel Data bus", 144 PI0/LCDVD0 (io) "GPIO - Port I/LCD Panel Data bus"
part B pins: 3 VDD (power) "I/O Ring VDD", 8 VSS (power) "I/O Ring VSS", 11 VDDC (power) "Core VDD supply", 14 VSSC (power) "Core VSS", 17 VDD (power) "I/O Ring VDD", 26 VSS (power) "I/O Ring VSS", 34 VDD (power) "I/O Ring VDD", 41 VSS (power) "I/O Ring VSS", 42 VDD (power) "I/O Ring VDD", 48 VSS (power) "I/O Ring VSS", 54 VDD (power) "I/O Ring VDD", 59 VSS (power) "I/O Ring VSS", 75 VDDC (power) "Core VDD supply", 80 VSSC (power) "Core VSS", 98 VDD (power) "I/O Ring VDD", 106 VSS (power) "I/O Ring VSS", 112 VDD (power) "I/O Ring VDD", 119 VSS (power) "I/O Ring VSS", 126 VDD (power) "I/O Ring VDD", 127 VSS (power) "I/O Ring VSS", 134 VDD (power) "I/O Ring VDD", 140 VSS (power) "I/O Ring VSS"

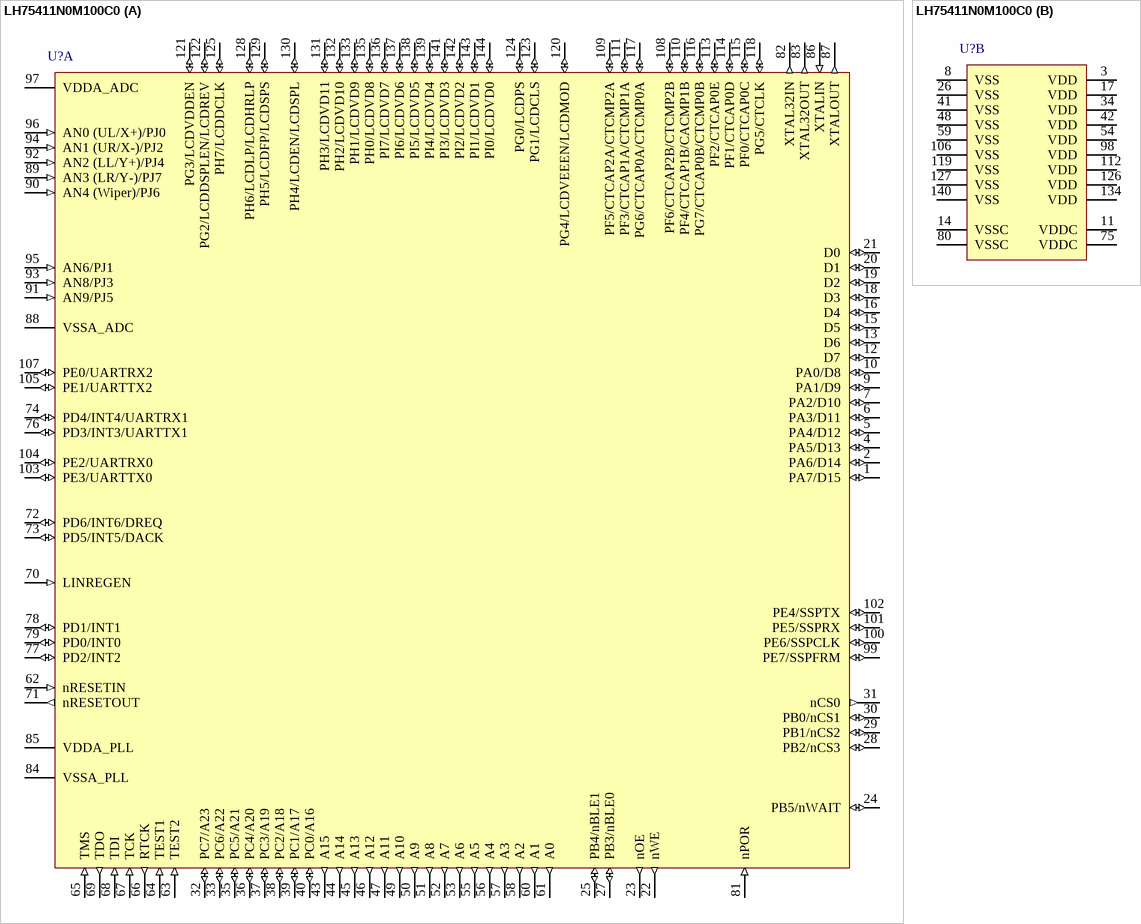
[diagram p24: symbol LH75411N0M100C0]

## LH75411N0M100C0
designator U?
16-Bit ARM7TDMI-S-Based BlueStreak, 8-Bit ADC, UART, Colour LCD controller, 32KB SRAM, 144-Pin LQFP; Published: 6-Oct-2005; LatestRevisionDate: 13-Apr-2006; LatestRevisionNote: IPC-7351 Footprint Added.; DatasheetVersion: ver1.2, May-2006; PackageVersion: Mar-2006; PackageReference: 144LQFP; Publisher: Altium Limited; PackageDescription: 144-Pin Low Profile Quad Flat Pack; Code_JEDEC: MS-026; ComponentLink1Description: Manufacturer Link; ComponentLink1URL: http://www.sharpsma.com/; ComponentLink2Description: Datasheet; ComponentLink2URL: http://document.sharpsma.com/files/LH754XX_DS_050806.PDF
footprint 144LQFP_N (Thin QFP, 144-Leads, Body 20x20mm, Pitch 0.5mm, IPC Medium Density)
footprint 144LQFP_L (Thin QFP, 144-Leads, Body 20x20mm, Pitch 0.5mm, IPC High Density)
footprint 144LQFP_M (Thin QFP, 144-Leads, Body 20x20mm, Pitch 0.5mm, IPC Low Density)
3D model LH75411-QFP144 (144-Pin Low Profile Quad Flat Pack)
part A pins: 1 PA7/D15 (io) "GPIO - Port A/Data IO Signal", 2 PA6/D14 (io) "GPIO - Port A/Data IO Signal", 4 PA5/D13 (io) "GPIO - Port A/Data IO Signal", 5 PA4/D12 (io) "GPIO - Port A/Data IO Signal", 6 PA3/D11 (io) "GPIO - Port A/Data IO Signal", 7 PA2/D10 (io) "GPIO - Port A/Data IO Signal", 9 PA1/D9 (io) "GPIO - Port A/Data IO Signal", 10 PA0/D8 (io) "GPIO - Port A/Data IO Signal", 12 D7 (io) "Data IO Signal", 13 D6 (io) "Data IO Signal", 15 D5 (io) "Data IO Signal", 16 D4 (io) "Data IO Signal", 18 D3 (io) "Data IO Signal", 19 D2 (io) "Data IO Signal", 20 D1 (io) "Data IO Signal", 21 D0 (io) "Data IO Signal", 22 nWE (out) "Static Memory Controller Write Enable", 23 nOE (out) "Static Memory Controller Output Enable", 24 PB5/nWAIT (io) "GPIO - Port B/Static Memory Controller External Wait Control", 25 PB4/nBLE1 (io) "GPIO - Port B/Static Memory Controller Byte Lane Strobe", 27 PB3/nBLE0 (io) "GPIO - Port B/Static Memory Controller Byte Lane Strobe", 28 PB2/nCS3 (io) "GPIO - Port B/Static Memory Controller Chip Select", 29 PB1/nCS2 (io) "GPIO - Port B/Static Memory Controller Chip Select", 30 PB0/nCS1 (io) "GPIO - Port B/Static Memory Controller Chip Select", 31 nCS0 (out) "Static Memory Controller Chip Select", 32 PC7/A23 (io) "GPIO - Port C/Address Signal", 33 PC6/A22 (io) "GPIO - Port C/Address Signal", 35 PC5/A21 (io) "GPIO - Port C/Address Signal", 36 PC4/A20 (io) "GPIO - Port C/Address Signal", 37 PC3/A19 (io) "GPIO - Port C/Address Signal", 38 PC2/A18 (io) "GPIO - Port C/Address Signal", 39 PC1/A17 (io) "GPIO - Port C/Address Signal", 40 PC0/A16 (io) "GPIO - Port C/Address Signal", 43 A15 (out) "Address Signal", 44 A14 (out) "Address Signal", 45 A13 (out) "Address Signal", 46 A12 (out) "Address Signal", 47 A11 (out) "Address Signal", 49 A10 (out) "Address Signal", 50 A9 (out) "Address Signal", 51 A8 (out) "Address Signal", 52 A7 (out) "Address Signal", 53 A6 (out) "Address Signal", 55 A5 (out) "Address Signal", 56 A4 (out) "Address Signal", 57 A3 (out) "Address Signal", 58 A2 (out) "Address Signal", 60 A1 (out) "Address Signal", 61 A0 (out) "Address Signal", 62 nRESETIN (in) "User Reset Input", 63 TEST2 (in) "Test Mode Pin 2", 64 TEST1 (in) "Test Mode Pin 1", 65 TMS (in) "JTAG Test Mode Select Input", 66 RTCK (out) "Returned JTAG Test Clock Output", 67 TCK (in) "JTAG Test Clock Input", 68 TDI (in) "JTAG Test Serial Data Input", 69 TDO (out) "JTAG Test Data Serial Output", 70 LINREGEN (in) "Linear Regulator Enable", 71 nRESETOUT (out) "System Reset Output", 72 PD6/INT6/DREQ (io) "GPIO - Port D/External Interrupt Input 6/DMA Request", 73 PD5/INT5/DACK (io) "GPIO - Port D/External Interrupt Input 5/DMA Acknowledge", 74 PD4/INT4/UARTRX1 (io) "GPIO - Port D/External Interrupt Input 4/UART1 RX Serial", 76 PD3/INT3/UARTTX1 (io) "GPIO - Port D/External Interrupt Input 3/UART1 TX Serial Data Output", 77 PD2/INT2 (io) "GPIO - Port D/External Interrupt Input 2", 78 PD1/INT1 (io) "GPIO - Port D/External Interrupt Input 1", 79 PD0/INT0 (io) "GPIO - Port D/External Interrupt Input 0", 81 nPOR (in) "Power-on Reset Input", 82 XTAL32IN (out) "32.768 kHz Crystal Clock Input", 83 XTAL32OUT (out) "32.768 kHz Crystal Clock Output", 84 VSSA_PLL (power) "PLL Analog VSS", 85 VDDA_PLL (power) "PLL Analog VDD Supply", 86 XTALIN (in) "Crystal Clock Input", 87 XTALOUT (out) "Crystal Clock Output", 88 VSSA_ADC (power) "ADC Analog VSS", 89 AN3 (LR/Y-)/PJ7 (in) "ADC Input/GPIO - Port J", 90 AN4 (Wiper)/PJ6 (in) "ADC Input/GPIO - Port J", 91 AN9/PJ5 (in) "ADC Input/GPIO - Port J", 92 AN2 (LL/Y+)/PJ4 (in) "ADC Input/GPIO - Port J", 93 AN8/PJ3 (in) "ADC Input/GPIO - Port J", 94 AN1 (UR/X-)/PJ2 (in) "ADC Input/GPIO - Port J", 95 AN6/PJ1 (in) "ADC Input/GPIO - Port J", 96 AN0 (UL/X+)/PJ0 (in) "ADC Input/GPIO - Port J", 97 VDDA_ADC (power) "ADC Analog VDD Supply", 99 PE7/SSPFRM (io) "GPIO - Port E/SSP Serial Frame", 100 PE6/SSPCLK (io) "GPIO - Port E/SSP Clock", 101 PE5/SSPRX (io) "GPIO - Port E/SSP RXD", 102 PE4/SSPTX (io) "GPIO - Port E/SSP TXD", 103 PE3/UARTTX0 (io) "GPIO - Port E/UART0 TX Serial Data Output", 104 PE2/UARTRX0 (io) "GPIO - Port E/UART0 RX Serial", 105 PE1/UARTTX2 (io) "GPIO - Port E/UART2 TX Serial Data Output", 107 PE0/UARTRX2 (io) "GPIO - Port E/UART2 RX Serial", 108 PF6/CTCAP2B/CTCMP2B (io) "GPIO - Port F/Timer 2 Capture Input/Timer 2 Compare Output", 109 PF5/CTCAP2A/CTCMP2A (io) "GPIO - Port F/Timer 2 Capture Input/Timer 2 Compare Output", 110 PF4/CTCAP1B/CACMP1B (io) "GPIO - Port F/Timer 1 Capture Input/Timer 1 Compare Output", 111 PF3/CTCAP1A/CTCMP1A (io) "GPIO - Port F/Timer 1 Capture Input/Timer 1 Compare Output", 113 PF2/CTCAP0E (io) "GPIO - Port F/Timer 0 Capture Input", 114 PF1/CTCAP0D (io) "GPIO - Port F/Timer 0 Capture Input", 115 PF0/CTCAP0C (io) "GPIO - Port F/Timer 0 Capture Input", 116 PG7/CTCAP0B/CTCMP0B (io) "GPIO - Port G/Timer 0 Capture Input/Timer 0 Compare Output", 117 PG6/CTCAP0A/CTCMP0A (io) "GPIO - Port G/Timer 0 Capture Input/Timer 0 Compare Output", 118 PG5/CTCLK (io) "GPIO - Port G/Common External", 120 PG4/LCDVEEEN/LCDMOD (io) "GPIO - Port G/Analog Supply Enable (AC Bias SIgnal)/Row Driver Signal", 121 PG3/LCDVDDEN (io) "GPIO - Port G/Digital Supply Enable", 122 PG2/LCDDSPLEN/LCDREV (io) "GPIO - Port G/LCD Panel Power Enable/Reverse Signal", 123 PG1/LCDCLS (io) "GPIO - Port G/Clock to the Row Drivers", 124 PG0/LCDPS (io) "GPIO - Port G/Power Save", 125 PH7/LCDDCLK (io) "GPIO - Port H/LCD Panel Clock", 128 PH6/LCDLP/LCDHRLP (io) "GPIO - Port H/Line and Horizontal Synch Pulse/Latch Pulse", 129 PH5/LCDFP/LCDSPS (io) "GPIO - Port H/Frame Pulse (STN), Vertical/Row Driver Counter Reset Signal", 130 PH4/LCDEN/LCDSPL (io) "GPIO - Port H/LCD Data Enable/Start Pulse Left", 131 PH3/LCDVD11 (io) "GPIO - Port H/LCD Panel Data bus", 132 PH2/LCDVD10 (io) "GPIO - Port H/LCD Panel Data bus", 133 PH1/LCDVD9 (io) "GPIO - Port H/LCD Panel Data bus", 135 PH0/LCDVD8 (io) "GPIO - Port H/LCD Panel Data bus", 136 PI7/LCDVD7 (io) "GPIO - Port I/LCD Panel Data bus", 137 PI6/LCDVD6 (io) "GPIO - Port I/LCD Panel Data bus", 138 PI5/LCDVD5 (io) "GPIO - Port I/LCD Panel Data bus", 139 PI4/LCDVD4 (io) "GPIO - Port I/LCD Panel Data bus", 141 PI3/LCDVD3 (io) "GPIO - Port I/LCD Panel Data bus", 142 PI2/LCDVD2 (io) "GPIO - Port I/LCD Panel Data bus", 143 PI1/LCDVD1 (io) "GPIO - Port I/LCD Panel Data bus", 144 PI0/LCDVD0 (io) "GPIO - Port I/LCD Panel Data bus"
part B pins: 3 VDD (power) "I/O Ring VDD", 8 VSS (power) "I/O Ring VSS", 11 VDDC (power) "Core VDD supply", 14 VSSC (power) "Core VSS", 17 VDD (power) "I/O Ring VDD", 26 VSS (power) "I/O Ring VSS", 34 VDD (power) "I/O Ring VDD", 41 VSS (power) "I/O Ring VSS", 42 VDD (power) "I/O Ring VDD", 48 VSS (power) "I/O Ring VSS", 54 VDD (power) "I/O Ring VDD", 59 VSS (power) "I/O Ring VSS", 75 VDDC (power) "Core VDD supply", 80 VSSC (power) "Core VSS", 98 VDD (power) "I/O Ring VDD", 106 VSS (power) "I/O Ring VSS", 112 VDD (power) "I/O Ring VDD", 119 VSS (power) "I/O Ring VSS", 126 VDD (power) "I/O Ring VDD", 127 VSS (power) "I/O Ring VSS", 134 VDD (power) "I/O Ring VDD", 140 VSS (power) "I/O Ring VSS"

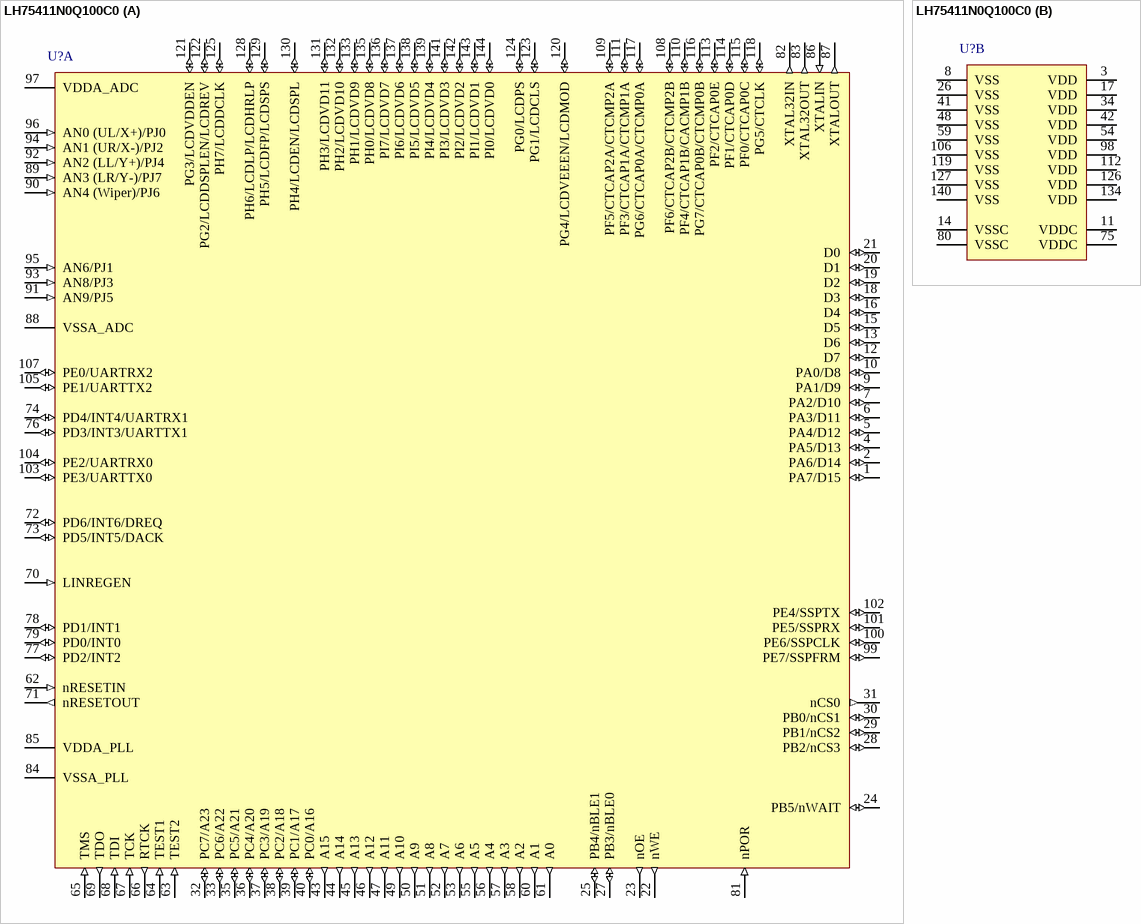
[diagram p25: symbol LH75411N0Q100C0]

## LH75411N0Q100C0
designator U?
16-Bit ARM7TDMI-S-Based BlueStreak, 8-Bit ADC, UART, Colour LCD controller, 32KB SRAM, 144-Pin LQFP, Pb-Free; Published: 6-Oct-2005; LatestRevisionDate: 13-Apr-2006; LatestRevisionNote: IPC-7351 Footprint Added.; DatasheetVersion: ver1.2, May-2006; PackageVersion: Mar-2006; PackageReference: 144LQFP; Publisher: Altium Limited; PackageDescription: 144-Pin Low Profile Quad Flat Pack; Code_JEDEC: MS-026; ComponentLink1Description: Manufacturer Link; ComponentLink1URL: http://www.sharpsma.com/; ComponentLink2Description: Datasheet; ComponentLink2URL: http://document.sharpsma.com/files/LH754XX_DS_050806.PDF
footprint 144LQFP_N (Thin QFP, 144-Leads, Body 20x20mm, Pitch 0.5mm, IPC Medium Density)
footprint 144LQFP_L (Thin QFP, 144-Leads, Body 20x20mm, Pitch 0.5mm, IPC High Density)
footprint 144LQFP_M (Thin QFP, 144-Leads, Body 20x20mm, Pitch 0.5mm, IPC Low Density)
3D model LH75411-QFP144 (144-Pin Low Profile Quad Flat Pack)
part A pins: 1 PA7/D15 (io) "GPIO - Port A/Data IO Signal", 2 PA6/D14 (io) "GPIO - Port A/Data IO Signal", 4 PA5/D13 (io) "GPIO - Port A/Data IO Signal", 5 PA4/D12 (io) "GPIO - Port A/Data IO Signal", 6 PA3/D11 (io) "GPIO - Port A/Data IO Signal", 7 PA2/D10 (io) "GPIO - Port A/Data IO Signal", 9 PA1/D9 (io) "GPIO - Port A/Data IO Signal", 10 PA0/D8 (io) "GPIO - Port A/Data IO Signal", 12 D7 (io) "Data IO Signal", 13 D6 (io) "Data IO Signal", 15 D5 (io) "Data IO Signal", 16 D4 (io) "Data IO Signal", 18 D3 (io) "Data IO Signal", 19 D2 (io) "Data IO Signal", 20 D1 (io) "Data IO Signal", 21 D0 (io) "Data IO Signal", 22 nWE (out) "Static Memory Controller Write Enable", 23 nOE (out) "Static Memory Controller Output Enable", 24 PB5/nWAIT (io) "GPIO - Port B/Static Memory Controller External Wait Control", 25 PB4/nBLE1 (io) "GPIO - Port B/Static Memory Controller Byte Lane Strobe", 27 PB3/nBLE0 (io) "GPIO - Port B/Static Memory Controller Byte Lane Strobe", 28 PB2/nCS3 (io) "GPIO - Port B/Static Memory Controller Chip Select", 29 PB1/nCS2 (io) "GPIO - Port B/Static Memory Controller Chip Select", 30 PB0/nCS1 (io) "GPIO - Port B/Static Memory Controller Chip Select", 31 nCS0 (out) "Static Memory Controller Chip Select", 32 PC7/A23 (io) "GPIO - Port C/Address Signal", 33 PC6/A22 (io) "GPIO - Port C/Address Signal", 35 PC5/A21 (io) "GPIO - Port C/Address Signal", 36 PC4/A20 (io) "GPIO - Port C/Address Signal", 37 PC3/A19 (io) "GPIO - Port C/Address Signal", 38 PC2/A18 (io) "GPIO - Port C/Address Signal", 39 PC1/A17 (io) "GPIO - Port C/Address Signal", 40 PC0/A16 (io) "GPIO - Port C/Address Signal", 43 A15 (out) "Address Signal", 44 A14 (out) "Address Signal", 45 A13 (out) "Address Signal", 46 A12 (out) "Address Signal", 47 A11 (out) "Address Signal", 49 A10 (out) "Address Signal", 50 A9 (out) "Address Signal", 51 A8 (out) "Address Signal", 52 A7 (out) "Address Signal", 53 A6 (out) "Address Signal", 55 A5 (out) "Address Signal", 56 A4 (out) "Address Signal", 57 A3 (out) "Address Signal", 58 A2 (out) "Address Signal", 60 A1 (out) "Address Signal", 61 A0 (out) "Address Signal", 62 nRESETIN (in) "User Reset Input", 63 TEST2 (in) "Test Mode Pin 2", 64 TEST1 (in) "Test Mode Pin 1", 65 TMS (in) "JTAG Test Mode Select Input", 66 RTCK (out) "Returned JTAG Test Clock Output", 67 TCK (in) "JTAG Test Clock Input", 68 TDI (in) "JTAG Test Serial Data Input", 69 TDO (out) "JTAG Test Data Serial Output", 70 LINREGEN (in) "Linear Regulator Enable", 71 nRESETOUT (out) "System Reset Output", 72 PD6/INT6/DREQ (io) "GPIO - Port D/External Interrupt Input 6/DMA Request", 73 PD5/INT5/DACK (io) "GPIO - Port D/External Interrupt Input 5/DMA Acknowledge", 74 PD4/INT4/UARTRX1 (io) "GPIO - Port D/External Interrupt Input 4/UART1 RX Serial", 76 PD3/INT3/UARTTX1 (io) "GPIO - Port D/External Interrupt Input 3/UART1 TX Serial Data Output", 77 PD2/INT2 (io) "GPIO - Port D/External Interrupt Input 2", 78 PD1/INT1 (io) "GPIO - Port D/External Interrupt Input 1", 79 PD0/INT0 (io) "GPIO - Port D/External Interrupt Input 0", 81 nPOR (in) "Power-on Reset Input", 82 XTAL32IN (out) "32.768 kHz Crystal Clock Input", 83 XTAL32OUT (out) "32.768 kHz Crystal Clock Output", 84 VSSA_PLL (power) "PLL Analog VSS", 85 VDDA_PLL (power) "PLL Analog VDD Supply", 86 XTALIN (in) "Crystal Clock Input", 87 XTALOUT (out) "Crystal Clock Output", 88 VSSA_ADC (power) "ADC Analog VSS", 89 AN3 (LR/Y-)/PJ7 (in) "ADC Input/GPIO - Port J", 90 AN4 (Wiper)/PJ6 (in) "ADC Input/GPIO - Port J", 91 AN9/PJ5 (in) "ADC Input/GPIO - Port J", 92 AN2 (LL/Y+)/PJ4 (in) "ADC Input/GPIO - Port J", 93 AN8/PJ3 (in) "ADC Input/GPIO - Port J", 94 AN1 (UR/X-)/PJ2 (in) "ADC Input/GPIO - Port J", 95 AN6/PJ1 (in) "ADC Input/GPIO - Port J", 96 AN0 (UL/X+)/PJ0 (in) "ADC Input/GPIO - Port J", 97 VDDA_ADC (power) "ADC Analog VDD Supply", 99 PE7/SSPFRM (io) "GPIO - Port E/SSP Serial Frame", 100 PE6/SSPCLK (io) "GPIO - Port E/SSP Clock", 101 PE5/SSPRX (io) "GPIO - Port E/SSP RXD", 102 PE4/SSPTX (io) "GPIO - Port E/SSP TXD", 103 PE3/UARTTX0 (io) "GPIO - Port E/UART0 TX Serial Data Output", 104 PE2/UARTRX0 (io) "GPIO - Port E/UART0 RX Serial", 105 PE1/UARTTX2 (io) "GPIO - Port E/UART2 TX Serial Data Output", 107 PE0/UARTRX2 (io) "GPIO - Port E/UART2 RX Serial", 108 PF6/CTCAP2B/CTCMP2B (io) "GPIO - Port F/Timer 2 Capture Input/Timer 2 Compare Output", 109 PF5/CTCAP2A/CTCMP2A (io) "GPIO - Port F/Timer 2 Capture Input/Timer 2 Compare Output", 110 PF4/CTCAP1B/CACMP1B (io) "GPIO - Port F/Timer 1 Capture Input/Timer 1 Compare Output", 111 PF3/CTCAP1A/CTCMP1A (io) "GPIO - Port F/Timer 1 Capture Input/Timer 1 Compare Output", 113 PF2/CTCAP0E (io) "GPIO - Port F/Timer 0 Capture Input", 114 PF1/CTCAP0D (io) "GPIO - Port F/Timer 0 Capture Input", 115 PF0/CTCAP0C (io) "GPIO - Port F/Timer 0 Capture Input", 116 PG7/CTCAP0B/CTCMP0B (io) "GPIO - Port G/Timer 0 Capture Input/Timer 0 Compare Output", 117 PG6/CTCAP0A/CTCMP0A (io) "GPIO - Port G/Timer 0 Capture Input/Timer 0 Compare Output", 118 PG5/CTCLK (io) "GPIO - Port G/Common External", 120 PG4/LCDVEEEN/LCDMOD (io) "GPIO - Port G/Analog Supply Enable (AC Bias SIgnal)/Row Driver Signal", 121 PG3/LCDVDDEN (io) "GPIO - Port G/Digital Supply Enable", 122 PG2/LCDDSPLEN/LCDREV (io) "GPIO - Port G/LCD Panel Power Enable/Reverse Signal", 123 PG1/LCDCLS (io) "GPIO - Port G/Clock to the Row Drivers", 124 PG0/LCDPS (io) "GPIO - Port G/Power Save", 125 PH7/LCDDCLK (io) "GPIO - Port H/LCD Panel Clock", 128 PH6/LCDLP/LCDHRLP (io) "GPIO - Port H/Line and Horizontal Synch Pulse/Latch Pulse", 129 PH5/LCDFP/LCDSPS (io) "GPIO - Port H/Frame Pulse (STN), Vertical/Row Driver Counter Reset Signal", 130 PH4/LCDEN/LCDSPL (io) "GPIO - Port H/LCD Data Enable/Start Pulse Left", 131 PH3/LCDVD11 (io) "GPIO - Port H/LCD Panel Data bus", 132 PH2/LCDVD10 (io) "GPIO - Port H/LCD Panel Data bus", 133 PH1/LCDVD9 (io) "GPIO - Port H/LCD Panel Data bus", 135 PH0/LCDVD8 (io) "GPIO - Port H/LCD Panel Data bus", 136 PI7/LCDVD7 (io) "GPIO - Port I/LCD Panel Data bus", 137 PI6/LCDVD6 (io) "GPIO - Port I/LCD Panel Data bus", 138 PI5/LCDVD5 (io) "GPIO - Port I/LCD Panel Data bus", 139 PI4/LCDVD4 (io) "GPIO - Port I/LCD Panel Data bus", 141 PI3/LCDVD3 (io) "GPIO - Port I/LCD Panel Data bus", 142 PI2/LCDVD2 (io) "GPIO - Port I/LCD Panel Data bus", 143 PI1/LCDVD1 (io) "GPIO - Port I/LCD Panel Data bus", 144 PI0/LCDVD0 (io) "GPIO - Port I/LCD Panel Data bus"
part B pins: 3 VDD (power) "I/O Ring VDD", 8 VSS (power) "I/O Ring VSS", 11 VDDC (power) "Core VDD supply", 14 VSSC (power) "Core VSS", 17 VDD (power) "I/O Ring VDD", 26 VSS (power) "I/O Ring VSS", 34 VDD (power) "I/O Ring VDD", 41 VSS (power) "I/O Ring VSS", 42 VDD (power) "I/O Ring VDD", 48 VSS (power) "I/O Ring VSS", 54 VDD (power) "I/O Ring VDD", 59 VSS (power) "I/O Ring VSS", 75 VDDC (power) "Core VDD supply", 80 VSSC (power) "Core VSS", 98 VDD (power) "I/O Ring VDD", 106 VSS (power) "I/O Ring VSS", 112 VDD (power) "I/O Ring VDD", 119 VSS (power) "I/O Ring VSS", 126 VDD (power) "I/O Ring VDD", 127 VSS (power) "I/O Ring VSS", 134 VDD (power) "I/O Ring VDD", 140 VSS (power) "I/O Ring VSS"

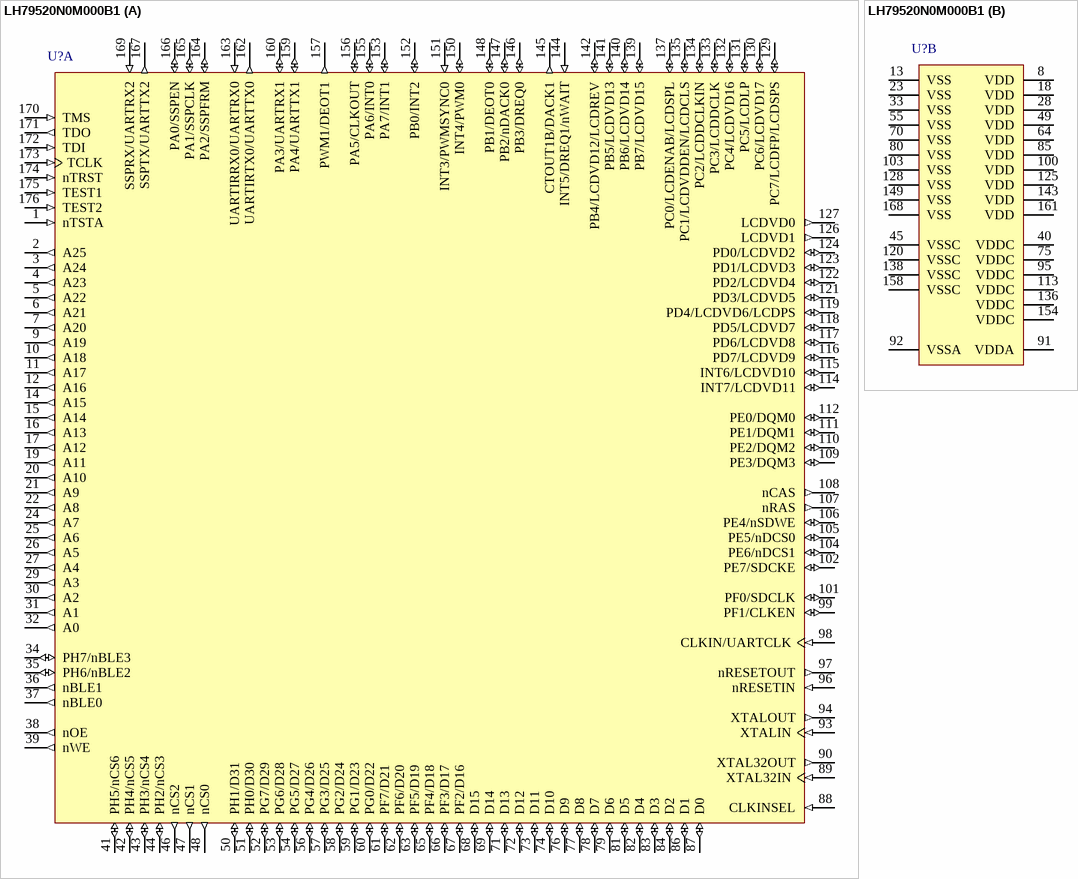
[diagram p26: symbol LH79520N0M000B1]